# EAGLE library part LSM9DS1 (library kitt.ic)
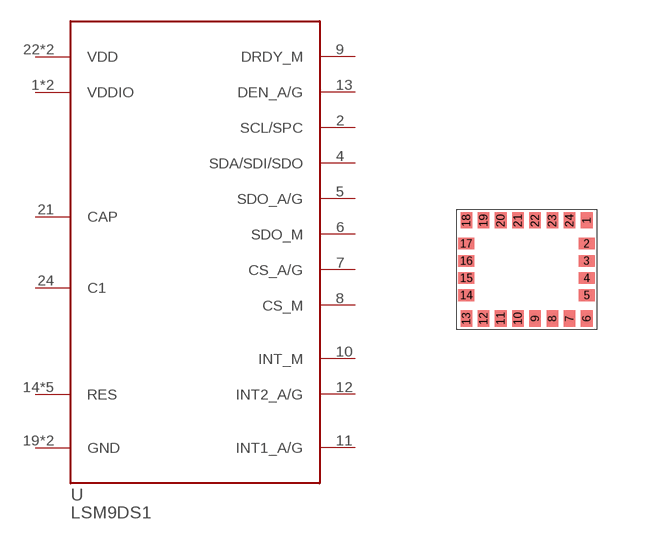
[diagram p3: symbol with the pads of LGA-24; footprint LGA-24]

Designator prefix -

## LSM9DS1 (AVAILABILITY: Unavailable; DESCRIPTION: iNEMO inertial module: 3D accelerometer, 3D gyroscope, 3D magnetometer; MF: STMicroelectronics; MP: LSM9DS1; PACKAGE: None; PRICE: None)  [LGA-24]
1  VDDIO
2  SCL/SPC
3  VDDIO
4  SDA/SDI/SDO
5  SDO_A/G
6  SDO_M
7  CS_A/G
8  CS_M
9  DRDY_M
10  INT_M
11  INT1_A/G
12  INT2_A/G
13  DEN_A/G
14  RES
15  RES
16  RES
17  RES
18  RES
19  GND
20  GND
21  CAP
22  VDD
23  VDD
24  C1

## Footprint LGA-24 (pad centres in mm)
smd 0.29 x 0.4: 1 3.01,2.45; 6 3.01,0; 7 2.58,0; 8 2.15,0; 9 1.72,0; 10 1.29,0; 11 0.86,0; 12 0.43,0; 13 0,0; 18 0,2.45; 19 0.43,2.45; 20 0.86,2.45; 21 1.29,2.45; 22 1.72,2.45; 23 2.15,2.45; 24 2.58,2.45
smd 0.4 x 0.29: 2 3.01,1.87; 3 3.01,1.44; 4 3.01,1.01; 5 3.01,0.58; 14 0,0.58; 15 0,1.01; 16 0,1.44; 17 0,1.87